# Altium integrated library DS2712EBT.IntLib: 2 symbols
Pins are listed as number, name and electrical type; pins without a type are passive.

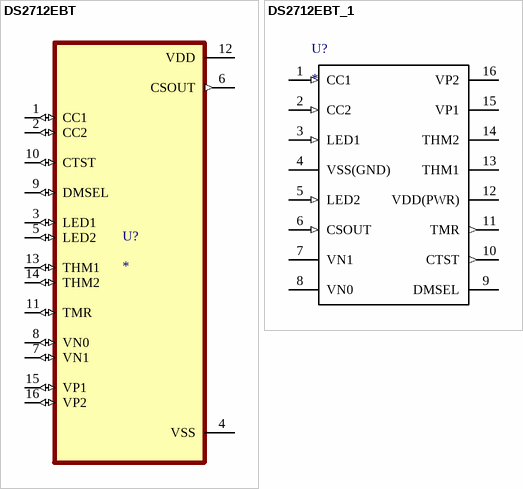
[diagram p0: symbols DS2712EBT to DS2712EBT_1]

## DS2712EBT
designator U?
MP: DS2712E+T&R; Package: None; Price: None; Value: *; Availability: Unavailable
footprint SOP65P640X110-16N
pins: 1 CC1 (io), 2 CC2 (io), 3 LED1 (io), 4 VSS (power), 5 LED2 (io), 6 CSOUT (out), 7 VN1 (io), 8 VN0 (io), 9 DMSEL (io), 10 CTST (io), 11 TMR (io), 12 VDD (power), 13 THM1 (io), 14 THM2 (io), 15 VP1 (io), 16 VP2 (io)

## DS2712EBT_1
designator U?
MP: DS2712E+T&R; Package: None; Price: None; Value: *; Availability: Unavailable
footprint SOP65P640X110-16N
pins: 1 CC1 (in), 2 CC2 (in), 3 LED1 (in), 4 VSS(GND) (power), 5 LED2 (in), 6 CSOUT (in), 7 VN1 (hiz), 8 VN0 (hiz), 9 DMSEL, 10 CTST (out), 11 TMR (out), 12 VDD(PWR) (power), 13 THM1, 14 THM2, 15 VP1, 16 VP2